# Altium schematic symbol library EEPROM_Microchip_93LC56BT_IOT.SchLib: 1 symbol
Pins are listed as number, name and electrical type; pins without a type are passive.

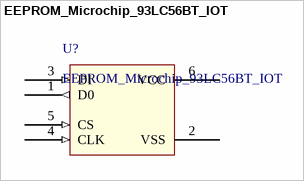
[diagram p0: symbol EEPROM_Microchip_93LC56BT_IOT]

## EEPROM_Microchip_93LC56BT_IOT
designator U?
EEPROM,2K bit,16 bit word,CMOS,SOT23-6
pins: 1 D0 (out), 2 VSS (power), 3 DI (in), 4 CLK (in), 5 CS (in), 6 VCC (power)